# EAGLE library part SI-52003-F (library ethernet_poe)
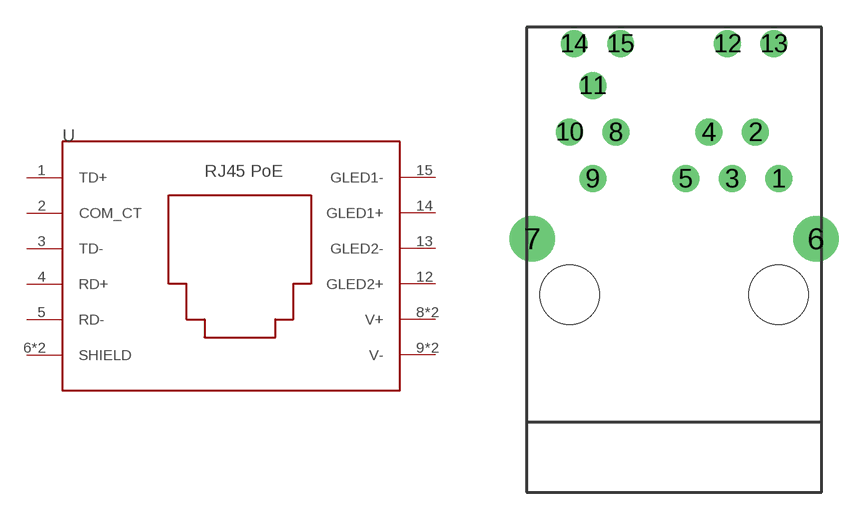
[diagram p3: symbol with the pads of SI-52003-F; footprint SI-52003-F]

Designator prefix -

## SI-52003-F  [SI-52003-F]
1  TD+
2  COM_CT
3  TD-
4  RD+
5  RD-
6  SHIELD
7  SHIELD
8  V+
9  V-
10  V+
11  V-
12  GLED2+
13  GLED2-
14  GLED1+
15  GLED1-

## Footprint SI-52003-F (pad centres in mm)
POE Ethernet jack SI-52003-F
drill 0.965: 1 0,0; 2 -1.27,2.54; 3 -2.54,0; 4 -3.81,2.54; 5 -5.08,0; 8 -8.89,2.54; 9 -10.16,0; 10 -11.43,2.54; 11 -10.16,5.08; 12 -2.794,7.366; 13 -0.254,7.366; 14 -11.176,7.366; 15 -8.636,7.366
drill 1.651: 6 2.032,-3.302; 7 -13.462,-3.302
hole 3.251 at 0,-6.35
hole 3.251 at -11.43,-6.35